# EAGLE library part PHN210T (library balto)
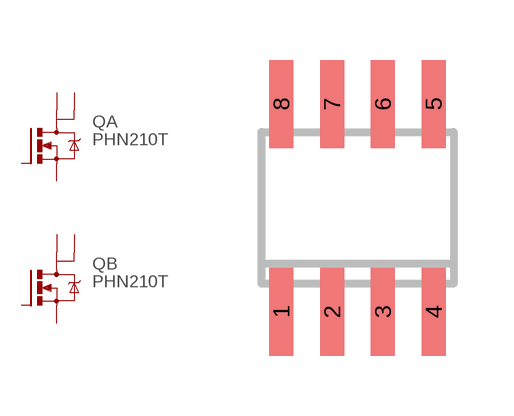
[diagram p24: symbol with the pads of SOIC8; footprint SOIC8]

Designator prefix Q; gates A=N-MOSFET-2D B=N-MOSFET-2D

## PHN210T  [SOIC8]
1  A:S  pas
2  A:G  pas
3  B:S  pas
4  B:G  pas
5  B:D  pas
6  B:D1  pas
7  A:D  pas
8  A:D1  pas

## Footprint SOIC8 (pad centres in mm)
Small Outline IC
smd 0.6 x 2.2: 1 -1.905,-2.6; 2 -0.635,-2.6; 3 0.635,-2.6; 4 1.905,-2.6; 5 1.905,2.6; 6 0.635,2.6; 7 -0.635,2.6; 8 -1.905,2.6